# EAGLE library part 5036_006_223_862 (library con-kyocera-elco)
SIM Card Module 6 PositionsWith a lock, Flat shell type Source: http://www.kyocera-elco.com/prdct/pdf/5036.pdf
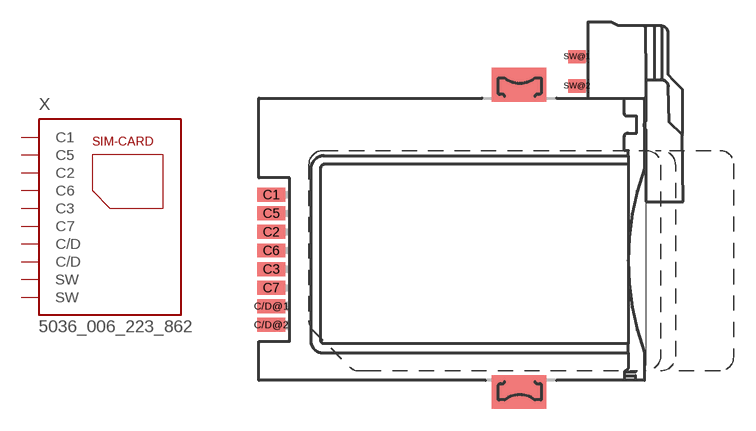
[diagram p2: symbol with the pads of 5036_006_223_862; footprint 5036_006_223_862]

Designator prefix X

## 5036_006_223_862 (OC_FARNELL: unknown; OC_NEWARK: unknown)  [5036_006_223_862]
C1  C1  pas
C2  C2  pas
C3  C3  pas
C5  C5  pas
C6  C6  pas
C7  C7  pas
C/D@1  C/D  pas
C/D@2  C/D  pas
SW@1  SW  pas
SW@2  SW  pas

## Footprint 5036_006_223_862 (pad centres in mm)
SIM Card Module 6 PositionsWith a lock, Flat shell type Source: http://www.kyocera-elco.com/prdct/pdf/5036.pdf
smd 1.9 x 0.95: C1 -16.9,2.98; C2 -16.9,0.44; C3 -16.9,-2.1; C5 -16.9,1.71; C6 -16.9,-0.83; C7 -16.9,-3.37; C/D@1 -16.9,-4.64; C/D@2 -16.9,-5.91
smd 1.2 x 0.9: SW@1 3.95,12.405; SW@2 3.95,10.405